# Altium footprint library HDR-2.54MM-SMT-RA.PcbLib: 1 footprints
Each footprint in its own frame and in the unit in brackets; x right, y up, seen from the top. Pads: shape width x height; smd on the part's side, far side on the other; paste and mask are expansions set on the pad; w line width, h text height; cw(c..) or ccw(c..) is an arc to the next point about the centre after c.
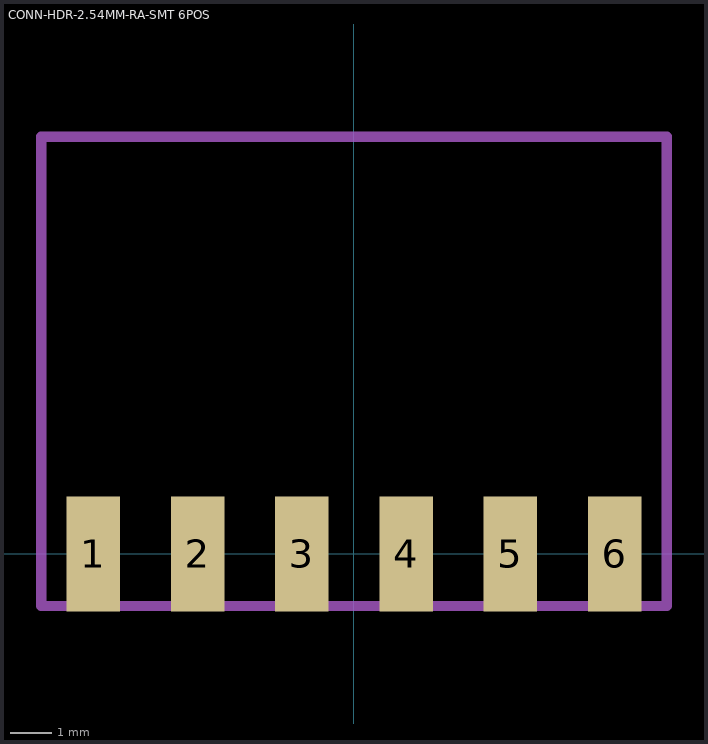
[diagram p0: the footprint, top view; thin cyan lines are the x and y axes]

## CONN-HDR-2.54MM-RA-SMT 6POS [mm] "CONN HDR 2.54MM RA SMT 6POS"
height 2.54
pads (6):
  rect 1.3x2.8 smd: 1(-6.35,0) 2(-3.81,0) 3(-1.27,0) 4(1.27,0) 5(3.81,0) 6(6.35,0)
Mechanical 13:
  lines w0.254: -7.62,-1.27 7.62,-1.27 7.62,10.16 -7.62,10.16 -7.62,-1.27
3D body "961106-5500-XX-XX.stp": height 2.5, standoff 0, extent -7.62,-1.27 7.62,9.83